# Altium footprint library MSP_LM35.PcbLib: 9 footprints
Each footprint in its own frame and in the unit in brackets; x right, y up, seen from the top. Pads: shape width x height; smd on the part's side, far side on the other; paste and mask are expansions set on the pad; w line width, h text height; cw(c..) or ccw(c..) is an arc to the next point about the centre after c.
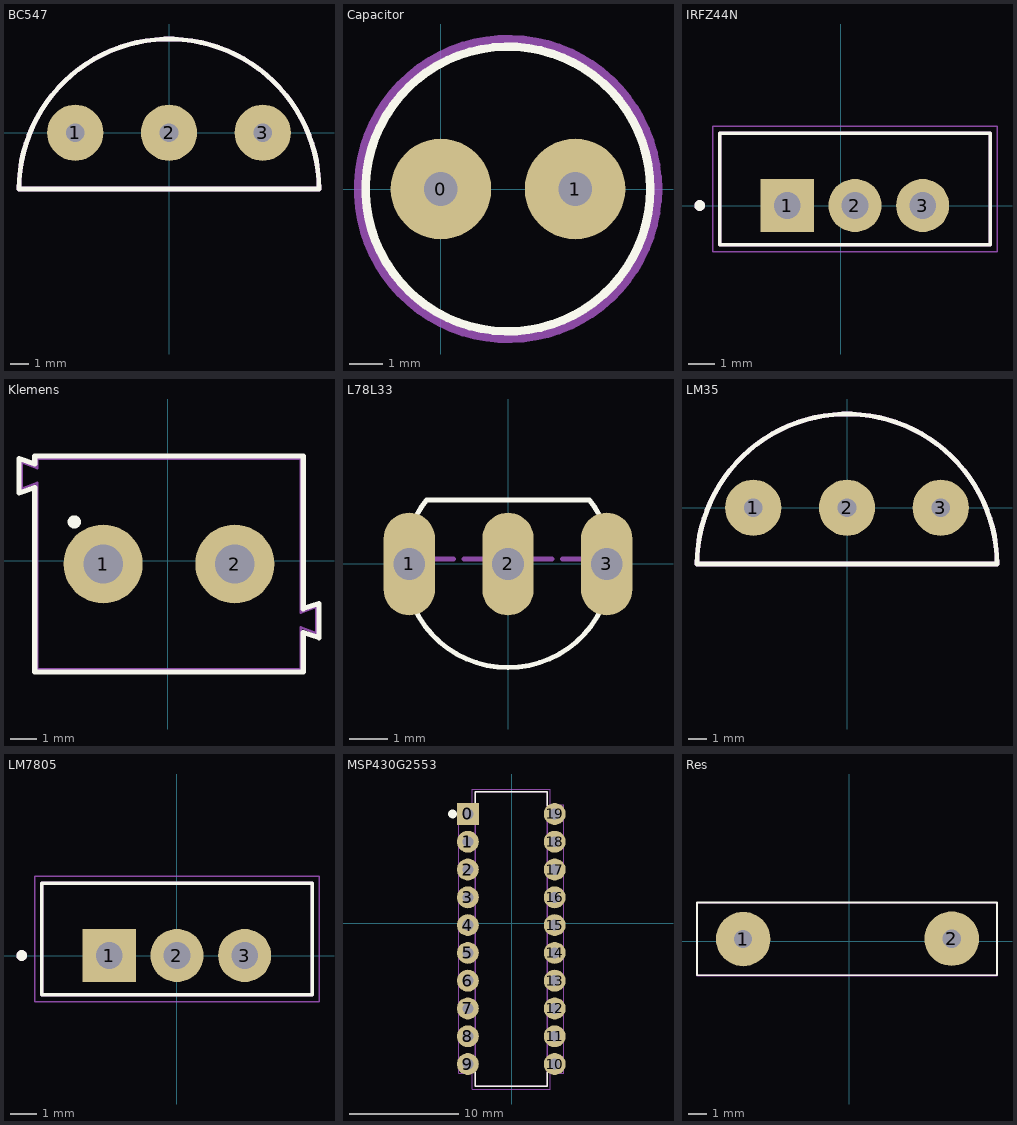
[diagram p0: the footprints below, top view; thin cyan lines are the x and y axes]

## BC547 [mm]
pads (3):
  round 3 hole 1: 1(-5,0) 2(0,0) 3(5,0)
Top Overlay:
  lines w0.254: -8,-3 cw(c0,-3) 8,-3 -8,-3
Mechanical 13:
  lines w0.254: -8,-3 cw(c0,-3) 8,-3 -8,-3
3D body "BC547.STEP": height 7.58, standoff -2.46, extent -2.77,-1.25 2.77,1.75

## Capacitor [mm]
pads (2):
  round 3 hole 1: 0(0,0) 1(4,0)
Top Overlay:
  circle w0.254: c2,0 r4.243
Mechanical 13:
  circle w0.254: c2,0 r4.472
3D body "DE6E3KJ222MN3A--3DModel-STEP-56544.STEP": height 12, standoff -25, extent -2.5,-4 6.5,3

## IRFZ44N [mm]
pads (3):
  rect 1.995x1.995 / inner round 1.995 / far side rect 1.995x1.995 hole 1: 1(-2,0)
  round 1.995 hole 1: 2(0.54,0) 3(3.08,0)
Top Overlay:
  circle w0.2: c-5.29,0 r0.1
  lines w0.127: -4.54,-1.478 -4.54,2.718 5.62,2.718 5.62,-1.478 -4.54,-1.478
Mechanical 13:
  circle w0.2: c-5.29,0 r0.1
  lines w0.127: -4.54,-1.478 -4.54,2.718 5.62,2.718 5.62,-1.478 -4.54,-1.478
Mechanical 15 (Mech15):
  lines w0.05: -4.79,-1.727 5.87,-1.727 5.87,2.967 -4.79,2.967 -4.79,-1.727
3D body "step_temp.STEP": height 22.86, standoff -8.38, extent -4.54,-1.473 5.62,2.718

## Klemens [mm]
pads (2):
  round 3 hole 1.5: 1(-2.46,-0.127) 2(2.54,-0.127)
Top Overlay:
  circle w0.3: c-3.56,1.473 r0.1
  lines w0.2: -5.66,2.573 -5.06,2.773 -5.06,-4.227 5.14,-4.227 5.14,-2.727 5.74,-2.927 5.74,-1.627 5.14,-1.827 5.14,3.973 -5.06,3.973 -5.06,3.673 -5.66,3.873 -5.66,2.573
Mechanical 13:
  lines w0.1: -5.56,2.738 -5.56,3.738 -4.96,3.513 -4.96,3.873 5.04,3.873 5.04,-1.977 5.64,-1.752 5.64,-2.752 5.04,-2.527 5.04,-4.127 -4.96,-4.127 -4.96,2.963 -5.56,2.738
3D body "691111710002.stp": height 12.35, standoff -2.65, extent -5.56,-4.127 5.64,3.873

## L78L33 [mil]
pads (3):
  oval 52x104 hole 32: 1(-100,0) 2(0,0) 3(100,0)
Top Overlay:
  lines w5: -95.18,44.37 cw(c-0.02,0) -82.76,64.64 ; -95.16,-44.37 ccw(c0,0) 95.16,-44.37 ; -82.48,65 82.48,65 ; 82.76,64.64 cw(c0.02,0) 95.18,44.37
Mechanical 13:
  lines w5: -104.88,5 -55.28,5 ; -95.16,-44.37 cw(c0,0) -104.86,5.5 cw(c0,0) -95.16,44.37 ; -44.72,5 44.72,5 ; 55.28,5 104.88,5 ; 95.16,-44.37 ccw(c0,0) 104.86,5.5 ccw(c0,0) 95.16,44.37
3D body "L78L33ACZ.STEP": height 292.91, standoff -511.81, extent -85.4,-96.99 94.11,53.89

## LM35 [mm]
pads (3):
  round 3 hole 1: 1(-5,0) 2(0,0) 3(5,0)
Top Overlay:
  lines w0.254: -8,-3 cw(c0,-3) 8,-3 -8,-3
Mechanical 13:
  lines w0.254: -8,-3 cw(c0,-3) 8,-3 -8,-3
3D body "Lm35.STEP": height 8.34, standoff -2.15, extent -2.535,-1.06 2.535,3

## LM7805 [mm]
pads (3):
  rect 1.995x1.995 / inner round 1.995 / far side rect 1.995x1.995 hole 1: 1(-2.54,0)
  round 1.995 hole 1: 2(0,0) 3(2.54,0)
Top Overlay:
  circle w0.2: c-5.83,0 r0.1
  lines w0.127: -5.08,-1.478 5.08,-1.478 5.08,2.718 -5.08,2.718 -5.08,-1.478
Mechanical 13:
  circle w0.2: c-5.83,0 r0.1
  lines w0.127: -5.08,-1.478 5.08,-1.478 5.08,2.718 -5.08,2.718 -5.08,-1.478
Mechanical 15 (Mech15):
  lines w0.05: -5.33,-1.727 -5.33,2.967 5.33,2.967 5.33,-1.727 -5.33,-1.727
3D body "step_temp.STEP": height 22.86, standoff -8.38, extent -5.08,-1.473 5.08,2.718

## MSP430G2553 [mm]
pads (20):
  rect 2x2 hole 1: 0(-4,10)
  round 2 hole 1: 1(-4,7.46) 2(-4,4.92) 3(-4,2.38) 4(-4,-0.16) 5(-4,-2.7) 6(-4,-5.24) 7(-4,-7.78) 8(-4,-10.32) 9(-4,-12.86) 10(3.94,-12.86) 11(3.94,-10.32) 12(3.94,-7.78) 13(3.94,-5.24) 14(3.94,-2.7) 15(3.94,-0.16) 16(3.94,2.38) 17(3.94,4.92) 18(3.94,7.46) 19(3.94,10)
Top Overlay:
  circle w0.4: c-5.4,10 r0.2
  lines w0.127: -3.33,-13.62 -3.33,-14.89 3.27,-14.89 3.27,-13.62 ; -3.33,10.76 -3.33,12.03 3.27,12.03 3.27,10.76
Mechanical 13:
  circle w0.4: c-4,10 r0.2
  lines w0.127: -3.33,-14.89 3.27,-14.89 3.27,12.03 -3.33,12.03 -3.33,-14.89
Mechanical 15 (Mech15):
  lines w0.05: -4.83,-13.69 -4.83,10.83 -3.58,10.83 -3.58,12.28 3.52,12.28 3.52,10.83 4.77,10.83 4.77,-13.69 3.52,-13.69 3.52,-15.14 -3.58,-15.14 -3.58,-13.69 -4.83,-13.69
3D body "MSP430G2553IN20--3DModel-STEP-269445.STEP": height 5.08, standoff -3.17, extent -4.218,-14.165 3.656,11.235

## Res [mm]
pads (2):
  round 3 hole 1: 1(-5.842,0.127) 2(5.64,0.143)
Top Overlay:
  lines w0.1: -8.379,-1.872 -8.379,2.128 8.131,2.128 8.131,-1.872 -8.379,-1.872
Mechanical 13:
  lines w0.1: -8.382,-1.873 8.128,-1.873 8.128,2.127 -8.382,2.127 -8.382,-1.873
Mechanical 15 (Mech15):
  lines w0.1: -8.382,-1.873 -8.382,2.127 8.128,2.127 8.128,-1.873 -8.382,-1.873
3D body "STA_CF14_STP.step": height 2.62, standoff -2.79, extent -6.159,-1.172 5.905,1.426